# Altium footprint library PcbLib1.PcbLib: 29 footprints (part 1 of 2)
Each footprint in its own frame and in the unit in brackets; x right, y up, seen from the top. Pads: shape width x height; smd on the part's side, far side on the other; paste and mask are expansions set on the pad; w line width, h text height; cw(c..) or ccw(c..) is an arc to the next point about the centre after c.
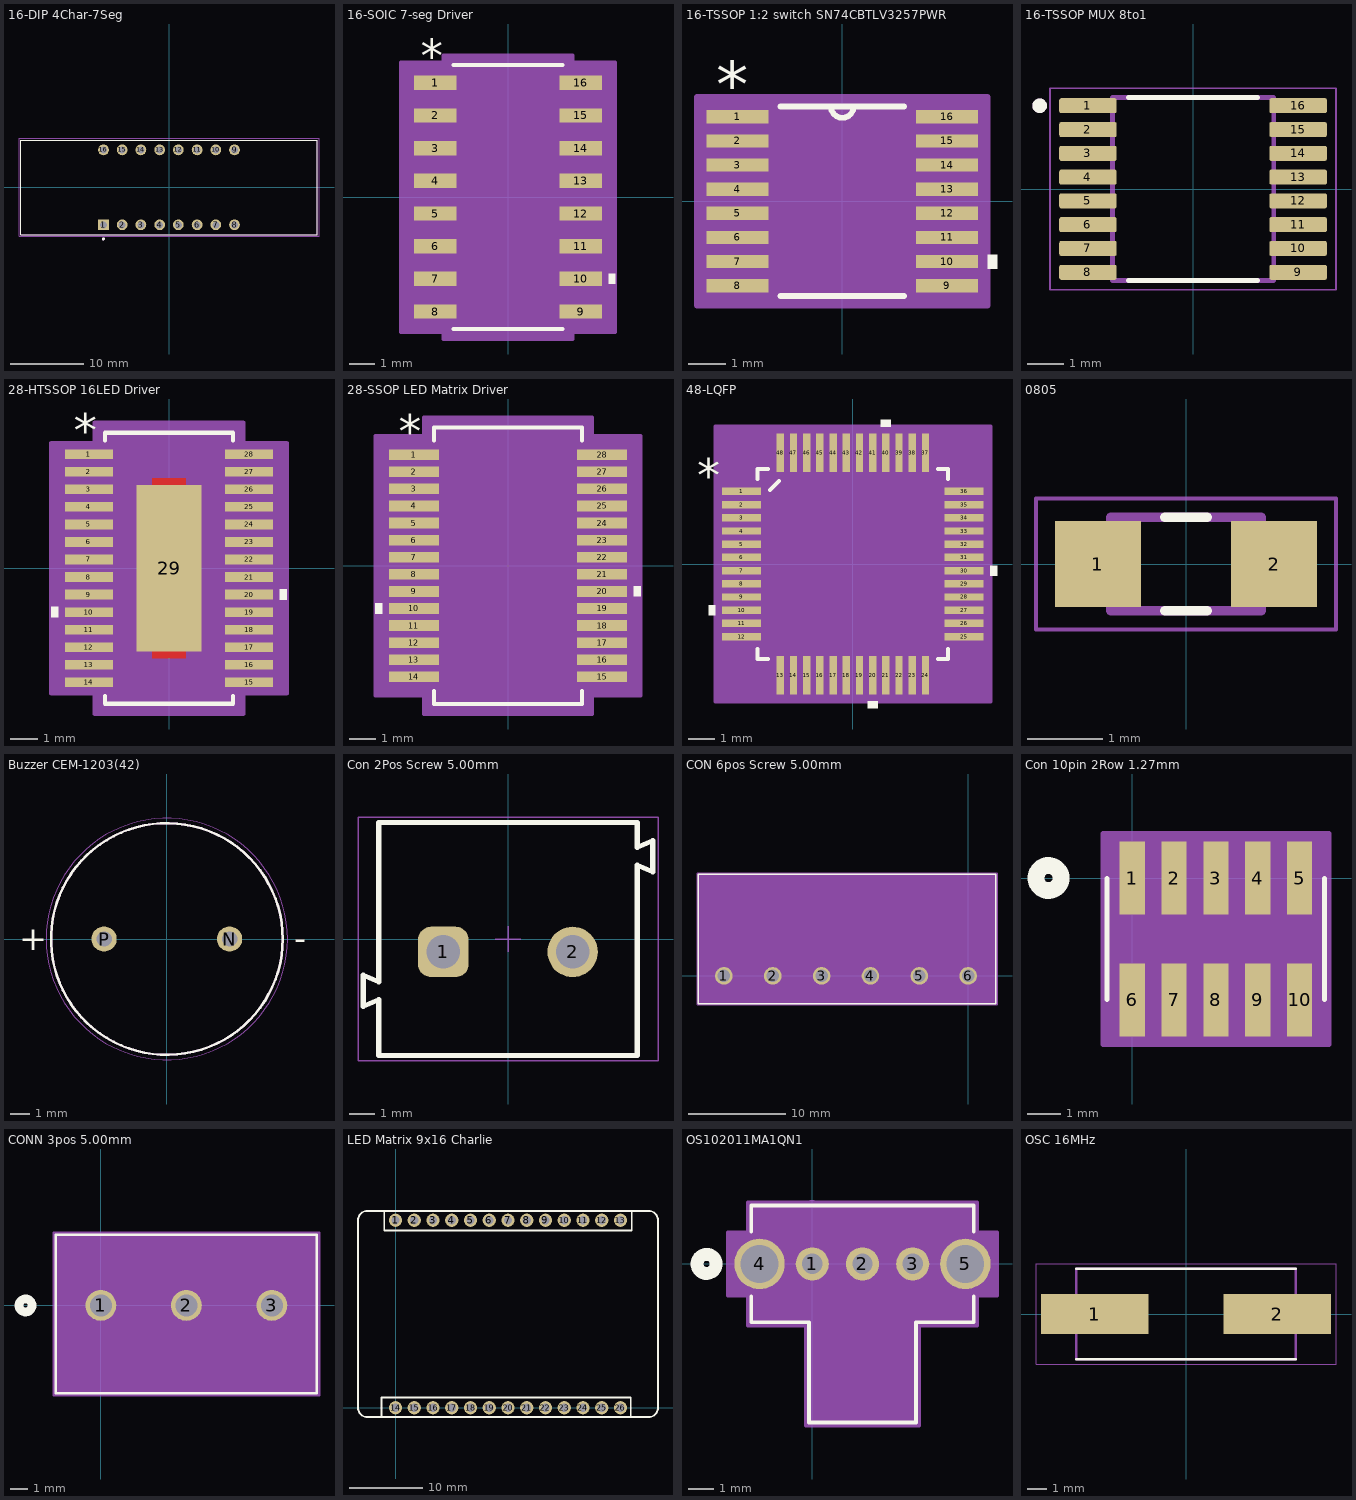
[diagram p0: the footprints below, top view; thin cyan lines are the x and y axes]

## 16-DIP 4Char-7Seg [mm]
pads (16):
  rect 1.458x1.458 / inner round 1.458 / far side rect 1.458x1.458 hole 0.95: 1(-8.89,-5.08)
  round 1.458 hole 0.95: 2(-6.35,-5.08) 3(-3.81,-5.08) 4(-1.27,-5.08) 5(1.27,-5.08) 6(3.81,-5.08) 7(6.35,-5.08) 8(8.89,-5.08) 9(8.89,5.08) 10(6.35,5.08) 11(3.81,5.08) 12(1.27,5.08) 13(-1.27,5.08) 14(-3.81,5.08) 15(-6.35,5.08) 16(-8.89,5.08)
Top Overlay:
  circle w0.2: c-8.9,-7 r0.1
  lines w0.127: -20.1,-6.4 20.1,-6.4 20.1,6.4 -20.1,6.4 -20.1,-6.4
Mechanical 13:
  circle w0.2: c-8.9,-7 r0.1
  lines w0.127: -20.1,-6.4 20.1,-6.4 20.1,6.4 -20.1,6.4 -20.1,-6.4
Mechanical 15:
  lines w0.05: -20.35,-6.65 -20.35,6.65 20.35,6.65 20.35,-6.65 -20.35,-6.65
3D body "step_temp.STEP": height 7, standoff -3.5, extent -20.1,-6.4 20.1,6.4

## 16-SOIC 7-seg Driver [mil]
pads (16):
  rect 65.5x22 smd paste+0 mask+5: 1(-111.25,175) 2(-111.25,125) 3(-111.25,75) 4(-111.25,25) 5(-111.25,-25) 6(-111.25,-75) 7(-111.25,-125) 8(-111.25,-175) 9(111.25,-175) 10(111.25,-125) 11(111.25,-75) 12(111.25,-25) 13(111.25,25) 14(111.25,75) 15(111.25,125) 16(111.25,175)
Top Overlay:
  region: 154,-117.5 164,-117.5 164,-132.5 154,-132.5
  lines w6: -83.5,-202 83.5,-202 ; -83.5,202 83.5,202
  text "*" at -133.75,192 h50
Mechanical 13:
  lines w0: -12,197 ccw(c0,197) 12,197
  lines w1: -122,-185 -122,-165 -78.5,-165 -78.5,-185 -122,-185 ; -122,-135 -122,-115 -78.5,-115 -78.5,-135 -122,-135 ; -122,-85 -122,-65 -78.5,-65 -78.5,-85 -122,-85 ; -122,-35 -122,-15 -78.5,-15 -78.5,-35 -122,-35 ; -122,15 -122,35 -78.5,35 -78.5,15 -122,15 ; -122,65 -122,85 -78.5,85 -78.5,65 -122,65 ; -122,115 -122,135 -78.5,135 -78.5,115 -122,115 ; -122,165 -122,185 -78.5,185 -78.5,165 -122,165 ; -78.5,-197 78.5,-197 78.5,197 -78.5,197 -78.5,-197 ; 78.5,-185 78.5,-165 122,-165 122,-185 78.5,-185 ; 78.5,-135 78.5,-115 122,-115 122,-135 78.5,-135 ; 78.5,-85 78.5,-65 122,-65 122,-85 78.5,-85 ; 78.5,-35 78.5,-15 122,-15 122,-35 78.5,-35 ; 78.5,15 78.5,35 122,35 122,15 78.5,15 ; 78.5,65 78.5,85 122,85 122,65 78.5,65 ; 78.5,115 78.5,135 122,135 122,115 78.5,115 ; 78.5,165 78.5,185 122,185 122,165 78.5,165
  text "*" at -76,144 h50
Mechanical 15:
  region: -98.5,-206 -164,-206 -164,206 -98.5,206 -98.5,217 98.5,217 98.5,206 164,206 164,-206 98.5,-206 98.5,-217 -98.5,-217
  lines w6: -164,-206 -164,206 -98.5,206 -98.5,217 98.5,217 98.5,206 164,206 164,-206 98.5,-206 98.5,-217 -98.5,-217 -98.5,-206 -164,-206
3D body "D16.step": height 69.09, standoff 0, extent -122.01,-197.01 122.01,197.01

## 16-TSSOP 1:2 switch SN74CBTLV3257PWR [mil]
pads (16):
  rect 66x14 smd paste-33 mask+0: 1(-111,89.57) 2(-111,63.98) 3(-111,38.39) 4(-111,12.8) 5(-111,-12.8) 6(-111,-38.39) 7(-111,-63.98) 8(-111,-89.57) 9(111,-89.57) 10(111,-63.98) 11(111,-38.39) 12(111,-12.8) 13(111,12.8) 14(111,38.39) 15(111,63.98) 16(111,89.57)
Top Overlay:
  region: 154,-56.48 164,-56.48 164,-71.48 154,-71.48
  lines w6: -65.5,-100.5 65.5,-100.5 ; -65.5,100.5 65.5,100.5 ; -12,100.5 ccw(c0,100.5) 12,100.5
  text "*" at -133.5,98.57 h50
Mechanical 13:
  lines w0: -12,100.5 ccw(c0,100.5) 12,100.5
  lines w1: -130,-95.57 -130,-83.57 -88.5,-83.57 -88.5,-95.57 -130,-95.57 ; -130,-69.98 -130,-57.98 -88.5,-57.98 -88.5,-69.98 -130,-69.98 ; -130,-44.39 -130,-32.39 -88.5,-32.39 -88.5,-44.39 -130,-44.39 ; -130,-18.8 -130,-6.8 -88.5,-6.8 -88.5,-18.8 -130,-18.8 ; -130,6.8 -130,18.8 -88.5,18.8 -88.5,6.8 -130,6.8 ; -130,32.39 -130,44.39 -88.5,44.39 -88.5,32.39 -130,32.39 ; -130,57.98 -130,69.98 -88.5,69.98 -88.5,57.98 -130,57.98 ; -130,83.57 -130,95.57 -88.5,95.57 -88.5,83.57 -130,83.57 ; -88.5,-100.5 88.5,-100.5 88.5,100.5 -88.5,100.5 -88.5,-100.5 ; 88.5,-95.57 88.5,-83.57 130,-83.57 130,-95.57 88.5,-95.57 ; 88.5,-69.98 88.5,-57.98 130,-57.98 130,-69.98 88.5,-69.98 ; 88.5,-44.39 88.5,-32.39 130,-32.39 130,-44.39 88.5,-44.39 ; 88.5,-18.8 88.5,-6.8 130,-6.8 130,-18.8 88.5,-18.8 ; 88.5,6.8 88.5,18.8 130,18.8 130,6.8 88.5,6.8 ; 88.5,32.39 88.5,44.39 130,44.39 130,32.39 88.5,32.39 ; 88.5,57.98 88.5,69.98 130,69.98 130,57.98 88.5,57.98 ; 88.5,83.57 88.5,95.57 130,95.57 130,83.57 88.5,83.57
  text "*" at -133.5,98.57 h50
Mechanical 15:
  region: 154,-110.5 -154,-110.5 -154,110.5 154,110.5
  lines w6: -154,-110.5 -154,110.5 154,110.5 154,-110.5 -154,-110.5
3D body "PW16.step": height 47.09, standoff 0, extent -130,-100.51 130,100.51

## 16-TSSOP MUX 8to1 [mm]
pads (16):
  rrect25% 1.57x0.41 smd mask+0: 1(-2.87,2.275) 2(-2.87,1.625) 3(-2.87,0.975) 4(-2.87,0.325) 5(-2.87,-0.325) 6(-2.87,-0.975) 7(-2.87,-1.625) 8(-2.87,-2.275) 9(2.87,-2.275) 10(2.87,-1.625) 11(2.87,-0.975) 12(2.87,-0.325) 13(2.87,0.325) 14(2.87,0.975) 15(2.87,1.625) 16(2.87,2.275)
Top Overlay:
  circle w0.2: c-4.19,2.275 r0.1
  lines w0.127: -1.765,-2.5 1.765,-2.5 ; -1.765,2.5 1.765,2.5
Mechanical 13:
  circle w0.2: c-4.19,2.275 r0.1
  lines w0.127: -2.2,-2.5 -2.2,2.5 2.2,2.5 2.2,-2.5 -2.2,-2.5
Mechanical 15:
  lines w0.05: -3.905,-2.75 -3.905,2.75 3.905,2.75 3.905,-2.75 -3.905,-2.75

## 28-HTSSOP 16LED Driver [mil]
pads (29):
  rect 70x14 smd paste+0 mask+0: 1(-117,166.34) 2(-117,140.75) 3(-117,115.16) 4(-117,89.57) 5(-117,63.98) 6(-117,38.39) 7(-117,12.8) 8(-117,-12.8) 9(-117,-38.39) 10(-117,-63.98) 11(-117,-89.57) 12(-117,-115.16) 13(-117,-140.75) 14(-117,-166.34) 15(117,-166.34) 16(117,-140.75) 17(117,-115.16) 18(117,-89.57) 19(117,-63.98) 20(117,-38.39) 21(117,-12.8) 22(117,12.8) 23(117,38.39) 24(117,63.98) 25(117,89.57) 26(117,115.16) 27(117,140.75) 28(117,166.34)
  rect 94.49x242.91 smd paste+0 mask+0: 29(0,0)
Top Layer:
  region: 24.61,-121.46 -24.61,-121.46 -24.61,-131.69 24.61,-131.69 24.61,-121.46
  region: 24.61,121.46 -24.61,121.46 -24.61,131.69 24.61,131.69 24.61,121.46
Top Overlay:
  region: 162,-30.89 172,-30.89 172,-45.89 162,-45.89
  region: -162,-56.48 -172,-56.48 -172,-71.48 -162,-71.48
  lines w6: -93.5,-186.44 -93.5,-197.91 93.5,-197.91 93.5,-186.44 ; -93.5,186.44 -93.5,197.91 93.5,197.91 93.5,186.44
  text "*" at -139.5,175.34 h50
Top Paste:
  region: 43.31,-64.67 -43.31,-64.67 -43.31,-117.52 43.31,-117.52
  region: 43.31,-3.94 -43.31,-3.94 -43.31,-56.79 43.31,-56.79
  region: 43.31,56.79 -43.31,56.79 -43.31,3.94 43.31,3.94
  region: 43.31,117.52 -43.31,117.52 -43.31,64.67 43.31,64.67
Top Solder:
  region: 24.61,-121.46 -24.61,-121.46 -24.61,-131.69 24.61,-131.69 24.61,-121.46
  region: 24.61,121.46 -24.61,121.46 -24.61,131.69 24.61,131.69 24.61,121.46
Mechanical 13:
  lines w0: -12,192.91 ccw(c0,192.91) 12,192.91
  lines w1: -130,-172.34 -88.5,-172.34 -88.5,-160.34 -130,-160.34 -130,-172.34 ; -130,-146.75 -88.5,-146.75 -88.5,-134.75 -130,-134.75 -130,-146.75 ; -130,-121.16 -88.5,-121.16 -88.5,-109.16 -130,-109.16 -130,-121.16 ; -130,-95.57 -88.5,-95.57 -88.5,-83.57 -130,-83.57 -130,-95.57 ; -130,-69.98 -88.5,-69.98 -88.5,-57.98 -130,-57.98 -130,-69.98 ; -130,-44.39 -88.5,-44.39 -88.5,-32.39 -130,-32.39 -130,-44.39 ; -130,-18.8 -88.5,-18.8 -88.5,-6.8 -130,-6.8 -130,-18.8 ; -130,6.8 -88.5,6.8 -88.5,18.8 -130,18.8 -130,6.8 ; -130,32.39 -88.5,32.39 -88.5,44.39 -130,44.39 -130,32.39 ; -130,57.98 -88.5,57.98 -88.5,69.98 -130,69.98 -130,57.98 ; -130,83.57 -88.5,83.57 -88.5,95.57 -130,95.57 -130,83.57 ; -130,109.16 -88.5,109.16 -88.5,121.16 -130,121.16 -130,109.16 ; -130,134.75 -88.5,134.75 -88.5,146.75 -130,146.75 -130,134.75 ; -130,160.34 -88.5,160.34 -88.5,172.34 -130,172.34 -130,160.34 ; -88.5,-192.91 -88.5,192.91 88.5,192.91 88.5,-192.91 -88.5,-192.91 ; 88.5,-172.34 130,-172.34 130,-160.34 88.5,-160.34 88.5,-172.34 ; 88.5,-146.75 130,-146.75 130,-134.75 88.5,-134.75 88.5,-146.75 ; 88.5,-121.16 130,-121.16 130,-109.16 88.5,-109.16 88.5,-121.16 ; 88.5,-95.57 130,-95.57 130,-83.57 88.5,-83.57 88.5,-95.57 ; 88.5,-69.98 130,-69.98 130,-57.98 88.5,-57.98 88.5,-69.98 ; 88.5,-44.39 130,-44.39 130,-32.39 88.5,-32.39 88.5,-44.39 ; 88.5,-18.8 130,-18.8 130,-6.8 88.5,-6.8 88.5,-18.8 ; 88.5,6.8 130,6.8 130,18.8 88.5,18.8 88.5,6.8 ; 88.5,32.39 130,32.39 130,44.39 88.5,44.39 88.5,32.39 ; 88.5,57.98 130,57.98 130,69.98 88.5,69.98 88.5,57.98 ; 88.5,83.57 130,83.57 130,95.57 88.5,95.57 88.5,83.57 ; 88.5,109.16 130,109.16 130,121.16 88.5,121.16 88.5,109.16 ; 88.5,134.75 130,134.75 130,146.75 88.5,146.75 88.5,134.75 ; 88.5,160.34 130,160.34 130,172.34 88.5,172.34 88.5,160.34
  text "*" at -91,130.34 h50
Mechanical 15:
  region: -108.5,-183.14 -172,-183.14 -172,183.14 -108.5,183.14 -108.5,212.91 108.5,212.91 108.5,183.14 172,183.14 172,-183.14 108.5,-183.14 108.5,-212.91 -108.5,-212.91
  lines w6: -172,-183.14 -108.5,-183.14 -108.5,-212.91 108.5,-212.91 108.5,-183.14 172,-183.14 172,183.14 108.5,183.14 108.5,212.91 -108.5,212.91 -108.5,183.14 -172,183.14 -172,-183.14
3D body "PWP28_6P17X2P4.step": height 67.09, standoff 0, extent -130,-192.91 130,192.91

## 28-SSOP LED Matrix Driver [mil]
pads (28):
  rect 75x16 smd paste+0 mask+0: 1(-141,166.34) 2(-141,140.75) 3(-141,115.16) 4(-141,89.57) 5(-141,63.98) 6(-141,38.39) 7(-141,12.8) 8(-141,-12.8) 9(-141,-38.39) 10(-141,-63.98) 11(-141,-89.57) 12(-141,-115.16) 13(-141,-140.75) 14(-141,-166.34) 15(141,-166.34) 16(141,-140.75) 17(141,-115.16) 18(141,-89.57) 19(141,-63.98) 20(141,-38.39) 21(141,-12.8) 22(141,12.8) 23(141,38.39) 24(141,63.98) 25(141,89.57) 26(141,115.16) 27(141,140.75) 28(141,166.34)
Top Overlay:
  region: -188.5,-56.48 -198.5,-56.48 -198.5,-71.48 -188.5,-71.48
  region: 188.5,-30.89 198.5,-30.89 198.5,-45.89 188.5,-45.89
  lines w6: -110.5,-187.44 -110.5,-207 110.5,-207 110.5,-187.44 ; -110.5,187.44 -110.5,207 110.5,207 110.5,187.44
  text "*" at -163.5,177.34 h50
Mechanical 13:
  lines w0: -12,202 ccw(c0,202) 12,202
  lines w1: -156.5,-173.34 -156.5,-159.34 -105.5,-159.34 -105.5,-173.34 -156.5,-173.34 ; -156.5,-147.75 -156.5,-133.75 -105.5,-133.75 -105.5,-147.75 -156.5,-147.75 ; -156.5,-122.16 -156.5,-108.16 -105.5,-108.16 -105.5,-122.16 -156.5,-122.16 ; -156.5,-96.57 -156.5,-82.57 -105.5,-82.57 -105.5,-96.57 -156.5,-96.57 ; -156.5,-70.98 -156.5,-56.98 -105.5,-56.98 -105.5,-70.98 -156.5,-70.98 ; -156.5,-45.39 -156.5,-31.39 -105.5,-31.39 -105.5,-45.39 -156.5,-45.39 ; -156.5,-19.8 -156.5,-5.8 -105.5,-5.8 -105.5,-19.8 -156.5,-19.8 ; -156.5,5.8 -156.5,19.8 -105.5,19.8 -105.5,5.8 -156.5,5.8 ; -156.5,31.39 -156.5,45.39 -105.5,45.39 -105.5,31.39 -156.5,31.39 ; -156.5,56.98 -156.5,70.98 -105.5,70.98 -105.5,56.98 -156.5,56.98 ; -156.5,82.57 -156.5,96.57 -105.5,96.57 -105.5,82.57 -156.5,82.57 ; -156.5,108.16 -156.5,122.16 -105.5,122.16 -105.5,108.16 -156.5,108.16 ; -156.5,133.75 -156.5,147.75 -105.5,147.75 -105.5,133.75 -156.5,133.75 ; -156.5,159.34 -156.5,173.34 -105.5,173.34 -105.5,159.34 -156.5,159.34 ; -105.5,-202 105.5,-202 105.5,202 -105.5,202 -105.5,-202 ; 105.5,-173.34 105.5,-159.34 156.5,-159.34 156.5,-173.34 105.5,-173.34 ; 105.5,-147.75 105.5,-133.75 156.5,-133.75 156.5,-147.75 105.5,-147.75 ; 105.5,-122.16 105.5,-108.16 156.5,-108.16 156.5,-122.16 105.5,-122.16 ; 105.5,-96.57 105.5,-82.57 156.5,-82.57 156.5,-96.57 105.5,-96.57 ; 105.5,-70.98 105.5,-56.98 156.5,-56.98 156.5,-70.98 105.5,-70.98 ; 105.5,-45.39 105.5,-31.39 156.5,-31.39 156.5,-45.39 105.5,-45.39 ; 105.5,-19.8 105.5,-5.8 156.5,-5.8 156.5,-19.8 105.5,-19.8 ; 105.5,5.8 105.5,19.8 156.5,19.8 156.5,5.8 105.5,5.8 ; 105.5,31.39 105.5,45.39 156.5,45.39 156.5,31.39 105.5,31.39 ; 105.5,56.98 105.5,70.98 156.5,70.98 156.5,56.98 105.5,56.98 ; 105.5,82.57 105.5,96.57 156.5,96.57 156.5,82.57 105.5,82.57 ; 105.5,108.16 105.5,122.16 156.5,122.16 156.5,108.16 105.5,108.16 ; 105.5,133.75 105.5,147.75 156.5,147.75 156.5,133.75 105.5,133.75 ; 105.5,159.34 105.5,173.34 156.5,173.34 156.5,159.34 105.5,159.34
  text "*" at -103,149 h50
Mechanical 15:
  region: -125.5,-194.34 -198.5,-194.34 -198.5,194.34 -125.5,194.34 -125.5,222 125.5,222 125.5,194.34 198.5,194.34 198.5,-194.34 125.5,-194.34 125.5,-222 -125.5,-222
  lines w6: -198.5,-194.34 -198.5,194.34 -125.5,194.34 -125.5,222 125.5,222 125.5,194.34 198.5,194.34 198.5,-194.34 125.5,-194.34 125.5,-222 -125.5,-222 -125.5,-194.34 -198.5,-194.34
3D body "SSOP-28_ISI.step": height 79.09, standoff 0, extent -156.5,-202.01 156.5,202.01

## 48-LQFP [mil]
pads (48):
  rect 58x11 smd paste+0 mask+0: 1(-166,108.27) 2(-166,88.58) 3(-166,68.9) 4(-166,49.21) 5(-166,29.53) 6(-166,9.84) 7(-166,-9.84) 8(-166,-29.53) 9(-166,-49.21) 10(-166,-68.9) 11(-166,-88.58) 12(-166,-108.27) 25(166,-108.27) 26(166,-88.58) 27(166,-68.9) 28(166,-49.21) 29(166,-29.53) 30(166,-9.84) 31(166,9.84) 32(166,29.53) 33(166,49.21) 34(166,68.9) 35(166,88.58) 36(166,108.27)
  rect 11x58 smd paste+0 mask+0: 13(-108.27,-166) 14(-88.58,-166) 15(-68.9,-166) 16(-49.21,-166) 17(-29.53,-166) 18(-9.84,-166) 19(9.84,-166) 20(29.53,-166) 21(49.21,-166) 22(68.9,-166) 23(88.58,-166) 24(108.27,-166) 37(108.27,166) 38(88.58,166) 39(68.9,166) 40(49.21,166) 41(29.53,166) 42(9.84,166) 43(-9.84,166) 44(-29.53,166) 45(-49.21,166) 46(-68.9,166) 47(-88.58,166) 48(-108.27,166)
Top Overlay:
  region: 56.71,205 41.71,205 41.71,215 56.71,215
  region: 205,-2.34 215,-2.34 215,-17.34 205,-17.34
  region: 37.03,-205 22.03,-205 22.03,-215 37.03,-215
  region: -205,-61.4 -215,-61.4 -215,-76.4 -205,-76.4
  lines w6: -142,-126.87 -142,-142 -126.87,-142 ; -142,126.87 -142,142 -126.87,142 ; -123.9,110.1 -110.1,123.9 ; 126.87,-142 142,-142 142,-126.87 ; 126.87,142 142,142 142,126.87
  text "*" at -232.5,108.11 h50
Mechanical 13:
  drawing of 197 lines, arcs and shapes, not listed
  text "*" at -232.5,108.11 h50
Mechanical 15:
  region: 205,-205 -205,-205 -205,205 205,205
  lines w6: -205,-205 205,-205 205,205 -205,205 -205,-205
3D body "LQFP-48.step": height 63.11, standoff 0, extent -180.98,-180.98 180.98,180.98

## 0805 [mm]
pads (2):
  rect 1.15x1.15 smd: 1(-1.175,0) 2(1.175,0)
Top Overlay:
  lines w0.127: -0.28,-0.625 0.28,-0.625 ; -0.28,0.625 0.28,0.625
Mechanical 13:
  lines w0.127: -1,-0.625 1,-0.625 1,0.625 -1,0.625 -1,-0.625
Mechanical 15:
  lines w0.05: -2,-0.875 2,-0.875 2,0.875 -2,0.875 -2,-0.875
3D body "step_temp.STEP": height 0.7, standoff 0, extent -1,-0.625 1,0.625

## Buzzer CEM-1203(42) [mm]
pads (2):
  round 1.308 hole 0.8: N(3.25,0) P(-3.25,0)
Top Overlay:
  circle w0.127: c0,0 r6
  text "-" at 6.608,-0.571 h1.27
  text "+" at -7.655,-0.571 h1.27
Mechanical 13:
  circle w0.127: c0,0 r6
Mechanical 15:
  circle w0.05: c0,0 r6.25
3D body "step_temp.STEP": height 8.5, standoff -5.5, extent -6,-6 6,6

## Con 2Pos Screw 5.00mm [mm]
pads (2):
  rrect50% 1.95x1.95 hole 1.3: 1(-2.5,-0.5)
  round 1.95 hole 1.3: 2(2.5,-0.5)
Top Overlay:
  lines w0.2: -5,-2.35 -5.6,-2.6 -5.6,-1.4 -5,-1.65 -5,4.5 5,4.5 5,3.55 5.6,3.8 5.6,2.6 5,2.85 5,-4.5 -5,-4.5 -5,-2.35
Top 3D Body:
  lines w0.1: -5,-2.35 -5.6,-2.6 -5.6,-1.4 -5,-1.65 -5,4.5 5,4.5 5,3.55 5.6,3.8 5.6,2.6 5,2.85 5,-4.5 -5,-4.5 -5,-2.35
Top Courtyard:
  lines w0.05: -5.8,-4.7 -5.8,4.7 5.8,4.7 5.8,-4.7 -5.8,-4.7
Top Component Outline:
  lines w0.1: -5,-2.35 -5.6,-2.6 -5.6,-1.4 -5,-1.65 -5,4.5 5,4.5 5,3.55 5.6,3.8 5.6,2.6 5,2.85 5,-4.5 -5,-4.5 -5,-2.35
Top Component Center:
  lines w0.05: -0.5,0 0.5,0 ; 0,-0.5 0,0.5
3D body "691101710002.stp": height 12.65, standoff -3.75, extent -5.6,-4.5 5.6,4.5

## CON 6pos Screw 5.00mm [mil] "45deg"
pads (6):
  round 71 / inner round 60 / far side round 71 hole 51 paste-99999 mask+0: 1(-984.25,0) 2(-787.4,0) 3(-590.55,0) 4(-393.7,0) 5(-196.85,0) 6(0,0)
Top Overlay:
  lines w6: -1087.69,-111.46 111.31,-111.46 111.31,408.54 -1087.69,408.54 -1087.69,-111.46
Mechanical 13:
  circle w20: c-984.25,75 r15
  lines w1: -1082.69,-106.46 106.31,-106.46 106.31,403.54 -1082.69,403.54 -1082.69,-106.46
Mechanical 15:
  region: 116.31,413.54 -1092.69,413.54 -1092.69,-116.46 116.31,-116.46
  lines w6: -1092.69,-116.46 -1092.69,413.54 116.31,413.54 116.31,-116.46 -1092.69,-116.46
3D body "1988846.SLDPRT": height 469.17, standoff -137.33, extent -1078.54,-107.37 125,397.37

## Con 10pin 2Row 1.27mm [mil]
pads (10):
  rect 30x87 smd paste+0 mask+0: 1(0,0) 2(50,0) 3(100,0) 4(150,0) 5(200,0) 6(0,-145.67) 7(50,-145.67) 8(100,-145.67) 9(150,-145.67) 10(200,-145.67)
Top Overlay:
  circle w20: c-100,0 r15
  lines w6: -30,-144.83 -30,-0.83 ; 230,-144.83 230,-0.83
Bottom Overlay:
  circle w20: c-100,0 r15
Mechanical 13:
  lines w1: -25,-139.83 225,-139.83 225,-5.83 -25,-5.83 -25,-139.83
Mechanical 15:
  region: 235,53.5 -35,53.5 -35,-199.17 235,-199.17
  lines w6: -35,-199.17 -35,53.5 235,53.5 235,-199.17 -35,-199.17

## CONN 3pos 5.00mm [mil]
pads (3):
  round 71 / inner round 60 / far side round 71 hole 51 paste-99999 mask+0: 1(0,0) 2(196.85,0) 3(393.7,0)
Top Overlay:
  circle w20: c-173.43,0 r15
  lines w6: -103.43,-201.85 -103.43,162.48 497.13,162.48 497.13,-201.85 -103.43,-201.85
Bottom Overlay:
  circle w20: c-173.43,0 r15
Mechanical 13:
  circle w20: c0,75 r15
  lines w1: -98.43,-196.85 -98.43,157.48 492.13,157.48 492.13,-196.85 -98.43,-196.85
Mechanical 15:
  region: 502.13,167.48 -108.43,167.48 -108.43,-206.85 502.13,-206.85
  lines w6: -108.43,-206.85 502.13,-206.85 502.13,167.48 -108.43,167.48 -108.43,-206.85

## LED Matrix 9x16 Charlie [mil]
pads (26):
  round 70 hole 45: 1(0,1000) 2(100,1000) 3(200,1000) 4(300,1000) 5(400,1000) 6(500,1000) 7(600,1000) 8(700,1000) 9(800,1000) 10(900,1000) 11(1000,1000) 12(1100,1000) 13(1200,1000) 14(0,0) 15(100,0) 16(200,0) 17(300,0) 18(400,0) 19(500,0) 20(600,0) 21(700,0) 22(800,0) 23(900,0) 24(1000,0) 25(1100,0) 26(1200,0)
Top Overlay:
  lines w10: -75,-50 -75,55 1255,55 1255,-50 ; -60,1050 -60,955 -60,945 1260,945 1260,1050 ; -200,0 ccw(c-150,0) -150,-50 -35,-50 1285,-50 1350,-50 ccw(c1350,0) 1400,0 1400,1000 ccw(c1350,1000) 1350,1050 -35,1050 -150,1050 ccw(c-150,1000) -200,1000 -200,0

## OS102011MA1QN1 [mil]
pads (5):
  round 52 / inner round 60 / far side round 52 hole 32 paste-99999 mask+0: 1(0,0) 2(78.74,0) 3(157.48,0)
  round 79 / inner round 60 / far side round 79 hole 59 paste-99999 mask+0: 4(-82.68,0) 5(240.16,0)
Top Overlay:
  circle w20: c-165.76,0 r15
  lines w6: -95.76,-50.95 -95.76,-91.5 -5.26,-91.5 -5.26,-248.5 162.74,-248.5 162.74,-91.5 253.24,-91.5 253.24,-50.95 ; -95.76,50.95 -95.76,91.5 253.24,91.5 253.24,50.95
Bottom Overlay:
  circle w20: c-165.76,0 r15
Mechanical 13:
  circle w20: c0,75 r15
  lines w1: 78.74,-86.5 78.74,-243.5 157.74,-243.5 157.74,-86.5 ; -90.76,-86.5 -90.76,86.5 248.24,86.5 248.24,-86.5 -90.76,-86.5
Mechanical 15:
  region: 167.74,-253.5 167.74,-96.5 258.24,-96.5 258.24,-49.5 289.66,-49.5 289.66,49.5 258.24,49.5 258.24,96.5 -100.76,96.5 -100.76,49.5 -132.18,49.5 -132.18,-49.5 -100.76,-49.5 -100.76,-96.5 -10.26,-96.5 -10.26,-253.5
  lines w6: -132.18,-49.5 -100.76,-49.5 -100.76,-96.5 -10.26,-96.5 -10.26,-253.5 167.74,-253.5 167.74,-96.5 258.24,-96.5 258.24,-49.5 289.66,-49.5 289.66,49.5 258.24,49.5 258.24,96.5 -100.76,96.5 -100.76,49.5 -132.18,49.5 -132.18,-49.5

## OSC 16MHz [mm]
pads (2):
  rect 5.6x2.1 smd: 1(-4.75,0) 2(4.75,0)
Top Overlay:
  lines w0.127: -5.7,-2.35 5.7,-2.35 ; -5.7,2.35 5.7,2.35
Mechanical 13:
  lines w0.127: -5.7,-2.35 5.7,-2.35 5.7,2.35 -5.7,2.35 -5.7,-2.35
Mechanical 15:
  lines w0.05: -7.8,-2.6 7.8,-2.6 7.8,2.6 -7.8,2.6 -7.8,-2.6
3D body "step_temp.STEP": height 4.2, standoff 0, extent -6.35,-2.35 6.35,2.35